# Altium schematic symbol library Spadgenske.SchLib: 22 symbols
Pins are listed as number, name and electrical type; pins without a type are passive.

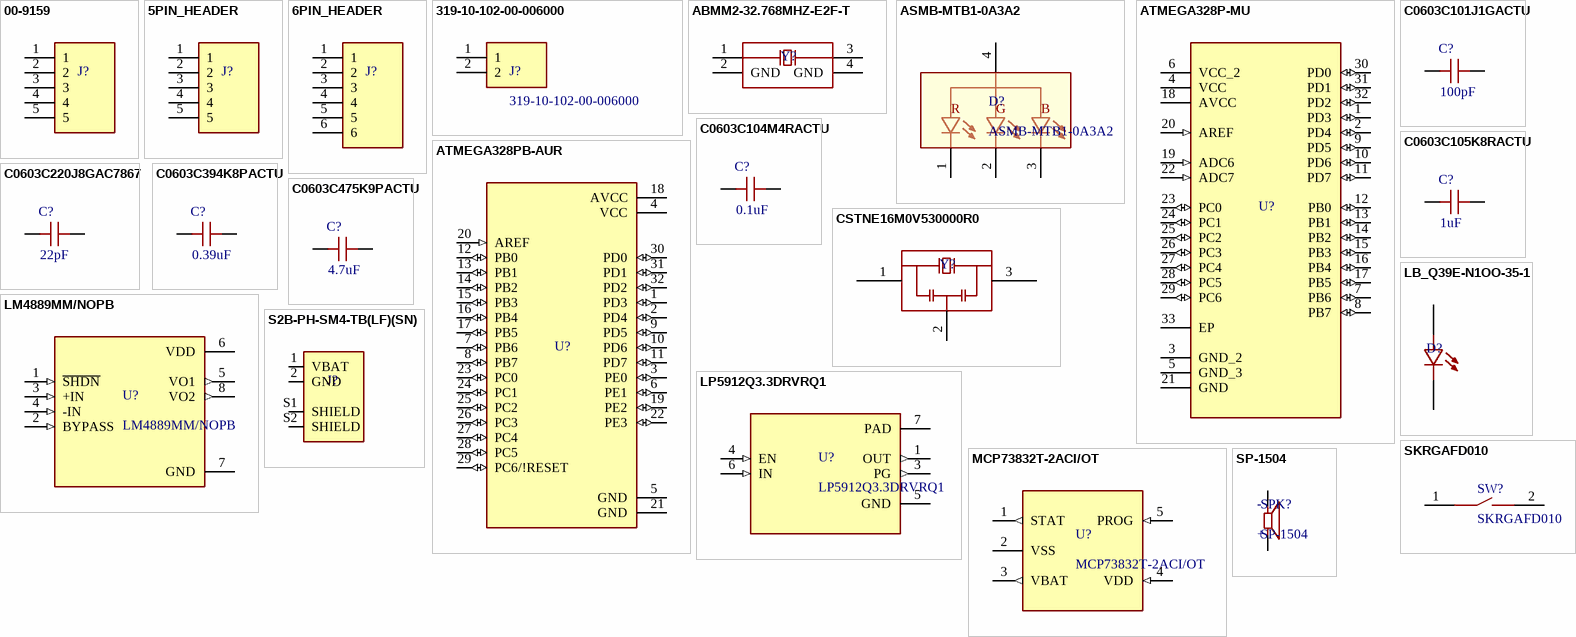
[diagram p0: symbols 00-9159 to SP-1504]

## 00-9159
designator J?  (value not drawn)
footprint 00-9159
pins: 1, 2, 3, 4, 5

## 5PIN_HEADER
designator J?  (value not drawn)
footprint 5PIN_HEADER
pins: 1, 2, 3, 4, 5

## 6PIN_HEADER
designator J?  (value not drawn)
footprint 6PIN_HEADER
pins: 1, 2, 3, 4, 5, 6

## 319-10-102-00-006000
designator J?
footprint 319-10-102-00-006000
pins: 1, 2

## ABMM2-32.768MHZ-E2F-T
designator Y?  (value not drawn)
2.768MHz ±20ppm Crystal 18pF 50 Ohms 4-SMD, No Lead
footprint ABMM2-32.768MHZ-E2F-T
pins: 1 GND (power), 2 GND (power), 3 GND (power), 4 GND (power)

## ASMB-MTB1-0A3A2
designator D?
LED RGB DIFFUSED 4PLCC SMD
footprint ASMB-MTB1-0A3A2
pins: 1, 2, 3, 4
text: R; G; B

## ATMEGA328P-MU
designator U?  (value not drawn)
footprint ATMEGA328P-MU
pins: 1 PD3 (io), 2 PD4 (io), 3 GND_2, 4 VCC (power), 5 GND_3, 6 VCC_2 (power), 7 PB6 (io), 8 PB7 (io), 9 PD5 (io), 10 PD6 (io), 11 PD7 (io), 12 PB0 (io), 13 PB1 (io), 14 PB2 (io), 15 PB3 (io), 16 PB4 (io), 17 PB5 (io), 18 AVCC (power), 19 ADC6 (in), 20 AREF (in), 21 GND, 22 ADC7 (in), 23 PC0 (io), 24 PC1 (io), 25 PC2 (io), 26 PC3 (io), 27 PC4 (io), 28 PC5 (io), 29 PC6 (io), 30 PD0 (io), 31 PD1 (io), 32 PD2 (io), 33 EP

## ATMEGA328PB-AUR
designator U?  (value not drawn)
IC MCU 8BIT 32KB FLASH 32TQFP
footprint ATMEGA328PB-AUR
pins: 1 PD3 (io), 2 PD4 (io), 3 PE0 (io), 4 VCC (power), 5 GND (power), 6 PE1 (io), 7 PB6 (io), 8 PB7 (io), 9 PD5 (io), 10 PD6 (io), 11 PD7 (io), 12 PB0 (io), 13 PB1 (io), 14 PB2 (io), 15 PB3 (io), 16 PB4 (io), 17 PB5 (io), 18 AVCC (power), 19 PE2 (io), 20 AREF (in), 21 GND (power), 22 PE3 (io), 23 PC0 (io), 24 PC1 (io), 25 PC2 (io), 26 PC3 (io), 27 PC4 (io), 28 PC5 (io), 29 PC6/!RESET (io), 30 PD0 (io), 31 PD1 (io), 32 PD2 (io)

## C0603C101J1GACTU
designator C?  value 100pF  (hidden comment: C0603C101J1GACTU)
CAP CER 100PF 100V C0G/NP0 0603
footprint C0603C101J1GACTU (CAP CER 100PF 100V C0G/NP0 0603)
pins: 1, 2

## C0603C104M4RACTU
designator C?  value 0.1uF  (hidden comment: C0603C104M4RACTU)
CAP CER 0.1UF 16V X7R 0603
footprint C0603C475K9PACTU
pins: 1, 2

## C0603C105K8RACTU
designator C?  value 1uF  (hidden comment: C0603C105K8RACTU)
CAP CER 1UF 10V X7R 0603
footprint C0603C475K9PACTU
pins: 1, 2

## C0603C220J8GAC7867
designator C?  value 22pF  (hidden comment: C0603C220J8GAC7867)
CAP CER 22PF 10V NP0 0603
footprint C0603C101J1GACTU (CAP CER 100PF 100V C0G/NP0 0603)
pins: 1, 2

## C0603C394K8PACTU
designator C?  value 0.39uF  (hidden comment: C0603C394K8PACTU)
±10% 10V Ceramic Capacitor X5R 0603 (1608 Metric)
footprint C0603C475K9PACTU
pins: 1, 2

## C0603C475K9PACTU
designator C?  value 4.7uF  (hidden comment: C0603C475K9PACTU)
CAP CER 4.7UF 6.3V X5R 0603
footprint C0603C475K9PACTU
pins: 1, 2

## CSTNE16M0V530000R0
designator Y?  (value not drawn)
CERAMIC RES 16.0000MHZ 15PF SMD
footprint CSTNE16M0V530000R0
pins: 1 3, 2 GND (power), 3 4

## LB_Q39E-N1OO-35-1
designator D?
footprint LB_Q39E-N1OO-35-1 (BLUE LED 0603)
pins: 1, 2

## LM4889MM/NOPB
designator U?
IC AMP CLASS AB MONO 1W 8VSSOP
footprint LM4889MM/NOPB
pins: 1 ~{SHDN} (in), 2 BYPASS (in), 3 +IN (in), 4 -IN (in), 5 VO1 (out), 6 VDD (power), 7 GND (power), 8 VO2 (out)

## LP5912Q3.3DRVRQ1
designator U?
footprint LP5912Q3.3DRVRQ1
pins: 1 OUT (out), 3 PG (out), 4 EN (in), 5 GND (power), 6 IN (in), 7 PAD (power)

## MCP73832T-2ACI/OT
designator U?
IC LI-ION/LI-POLY CTRLR SOT23-5
footprint MCP73832T-2ACI/OT
pins: 1 STAT (out), 2 VSS, 3 VBAT (out), 4 VDD (in), 5 PROG (in)

## S2B-PH-SM4-TB(LF)(SN)
designator J?  (value not drawn)
footprint S2B-PH-SM4-TB(LF)(SN)
pins: 1 VBAT, 2 GND, S1 SHIELD, S2 SHIELD

## SKRGAFD010
designator SW?
Tactile Switches 50 mAmps at 12 Volts
footprint SKRGAFD010 (Tactile Switches 50 mAmps at 12 Volts)
pins: 1, 2

## SP-1504
designator SPK?
SPEAKER 8OHM 800MW TOP PORT 90DB
footprint SP-1504
pins: 1, 2
text: -; +